# Altium footprint library cricket-node-hw__B.PcbLib: 52 footprints (part 4 of 4)
Each footprint in its own frame and in the unit in brackets; x right, y up, seen from the top. Pads: shape width x height; smd on the part's side, far side on the other; paste and mask are expansions set on the pad; w line width, h text height; cw(c..) or ccw(c..) is an arc to the next point about the centre after c.
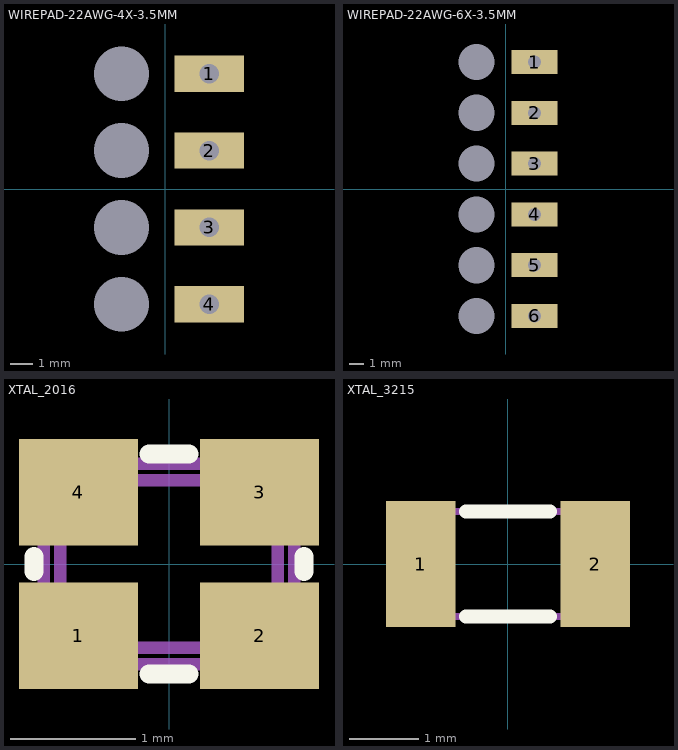
[diagram p3: the footprints below, top view; thin cyan lines are the x and y axes]

## WIREPAD-22AWG-4X-3.5MM [mm]
height 1.6
pads (8):
  rect 3.175x1.651 hole 0.889: 1(2,5.25) 2(2,1.75) 3(2,-1.75) 4(2,-5.25)
  rect 0x0 hole 2.5 unplated: M2(-2,-5.25) M2(-2,-1.75) M2(-2,1.75) M2(-2,5.25)

## WIREPAD-22AWG-6X-3.5MM [mm]
height 1.6
pads (12):
  rect 3.175x1.651 hole 0.889: 1(2,8.75) 2(2,5.25) 3(2,1.75) 4(2,-1.75) 5(2,-5.25) 6(2,-8.75)
  rect 0x0 hole 2.5 unplated: M2(-2,-8.75) M2(-2,-5.25) M2(-2,-1.75) M2(-2,1.75) M2(-2,5.25) M2(-2,8.75)

## XTAL_2016 [mm] "Crystal 2.0 x 1.6 mm"
height 0.5
pads (4):
  rect 0.95x0.85 smd: 1(-0.725,-0.575) 2(0.725,-0.575) 3(0.725,0.575) 4(-0.725,0.575)
Top Overlay:
  lines w0.152: -1.08,-0.06 -1.08,0.06 ; -0.16,-0.88 0.16,-0.88 ; -0.16,0.88 0.16,0.88 ; 1.08,-0.06 1.08,0.06
Mechanical 7:
  lines w0.1: -1,-0.7 cw(c-1,-0.8) -0.9,-0.8 0.9,-0.8 cw(c1,-0.8) 1,-0.7 1,0.7 cw(c1,0.8) 0.9,0.8 -0.9,0.8 cw(c-1,0.8) -1,0.7 -1,-0.7 ; -0.87,-0.57 ccw(c-0.77,-0.57) -0.77,-0.67 0.77,-0.67 ccw(c0.77,-0.57) 0.87,-0.57 0.87,0.57 ccw(c0.77,0.57) 0.77,0.67 -0.77,0.67 ccw(c-0.77,0.57) -0.87,0.57 -0.87,-0.57
  text ".Designator" at 1.524,0.102 h0.3
3D body "User Library-GeyerElectronics_KX5.step": height 0.56, standoff 0, extent -1.05,-0.85 1.05,0.85
3D body: height 0.56, standoff 0.15, extent -0.7,-0.65 0.7,0.65

## XTAL_3215 [mm] "XTAL SMD 3.2 x 1.5 mm"
height 0.8
pads (2):
  rect 1x1.8 smd: 1(-1.25,0) 2(1.25,0)
Top Overlay:
  lines w0.2: -0.6,-0.75 0.6,-0.75 ; -0.6,0.75 0.6,0.75
Mechanical 7:
  lines w0.1: -1.6,-0.75 1.6,-0.75 1.6,0.75 -1.6,0.75 -1.6,-0.75
Mechanical 15:
  lines w0.1: -1.6,-0.55 cw(c-1.6,-0.75) -1.4,-0.75 1.4,-0.75 cw(c1.6,-0.75) 1.6,-0.55 1.6,0.55 cw(c1.6,0.75) 1.4,0.75 -1.4,0.75 cw(c-1.6,0.75) -1.6,0.55 -1.6,-0.55
3D body "User Library-Siward_SX3215.step": height 0.81, standoff 0, extent -1.6,-0.75 1.6,0.75
3D body: height 0.81, standoff 0.15, extent -1.2,-0.6 1.2,0.6